# Altium schematic symbol library CONNECTOR.SchLib: 23 symbols
Pins are listed as number, name and electrical type; pins without a type are passive.

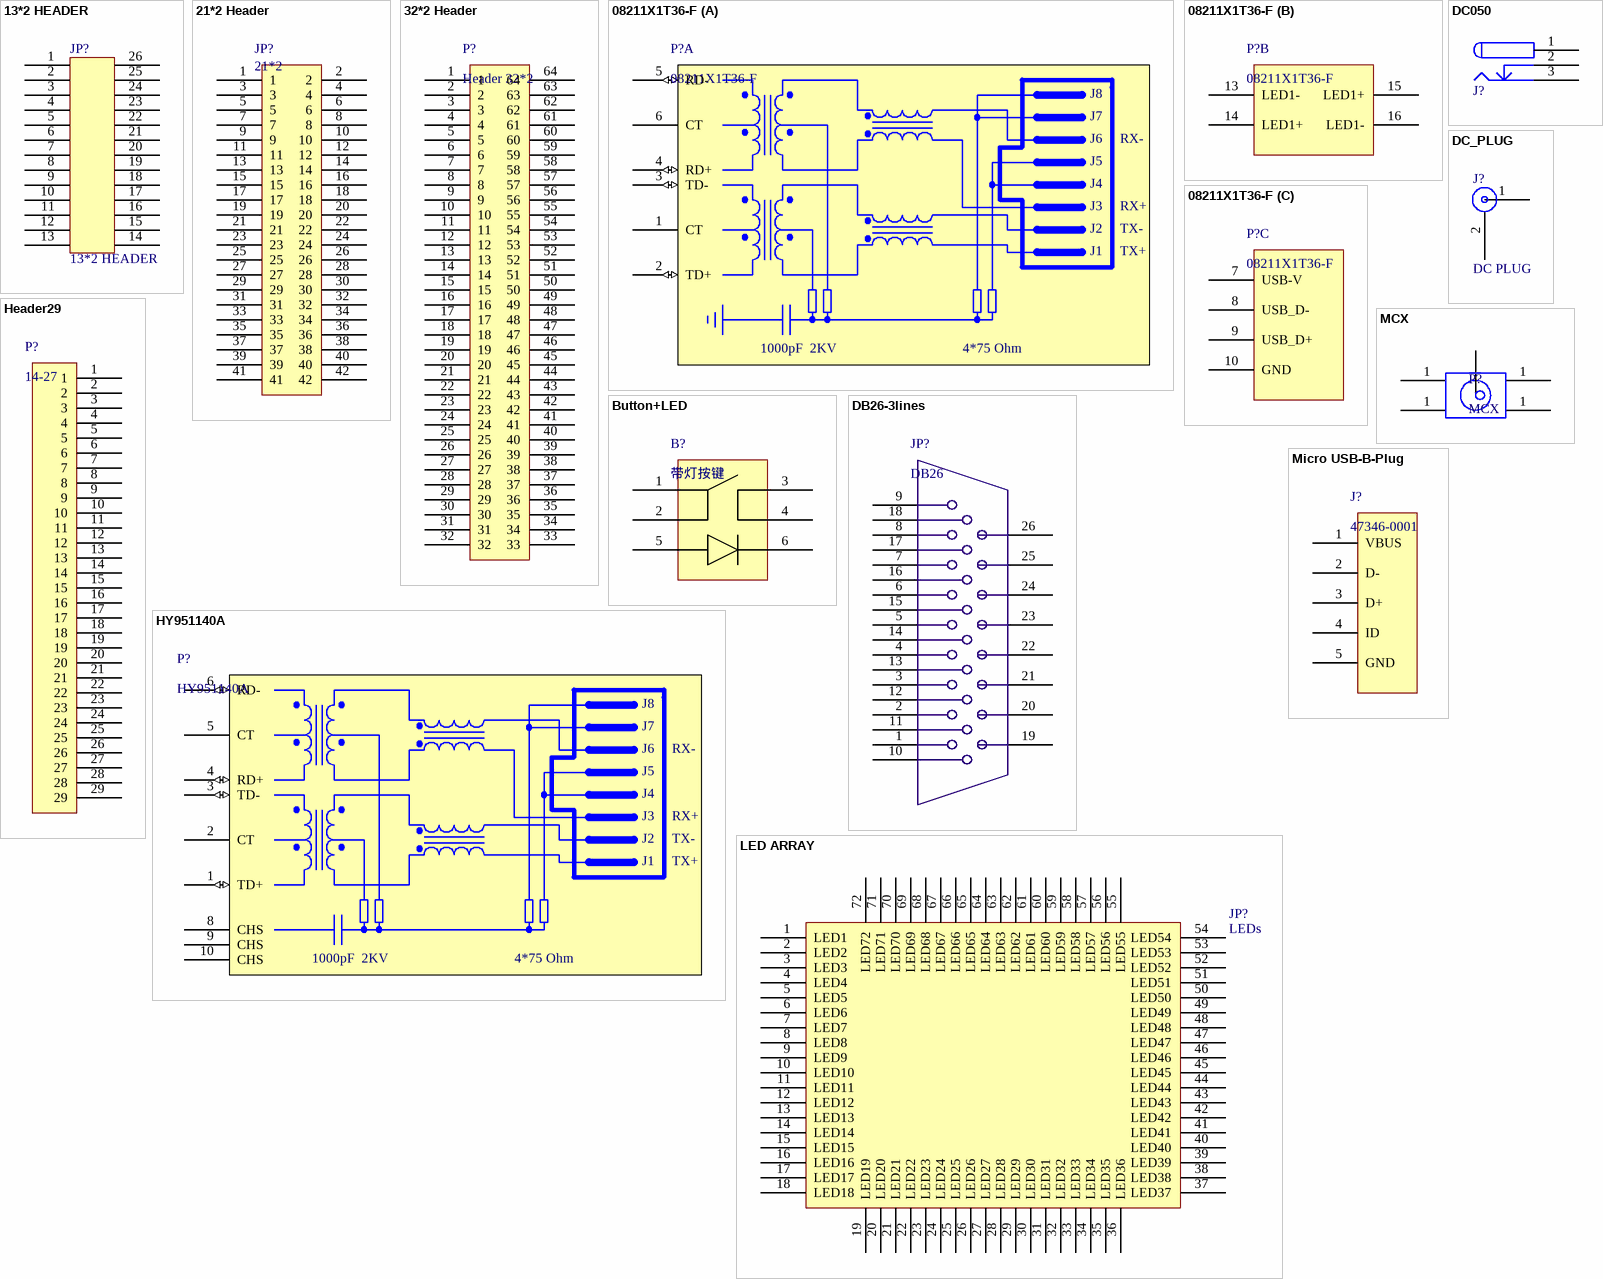
[diagram p0: symbols 13*2 HEADER to Micro USB-B-Plug]

## 13*2 HEADER
designator JP?
footprint Kaikou connector (P26)
pins: 1, 2, 3, 4, 5, 6, 7, 8, 9, 10, 11, 12, 13, 14, 15, 16, 17, 18, 19, 20, 21, 22, 23, 24, 25, 26

## 21*2 Header
designator JP?, comment 21*2
footprint IDC42
pins: 1, 2, 3, 4, 5, 6, 7, 8, 9, 10, 11, 12, 13, 14, 15, 16, 17, 18, 19, 20, 21, 22, 23, 24, 25, 26, 27, 28, 29, 30, 31, 32, 33, 34, 35, 36, 37, 38, 39, 40, 41, 42

## 32*2 Header
designator P?, comment Header 32*2
footprint NJ-64 (2.54mm,牛角64位)
pins: 1, 2, 3, 4, 5, 6, 7, 8, 9, 10, 11, 12, 13, 14, 15, 16, 17, 18, 19, 20, 21, 22, 23, 24, 25, 26, 27, 28, 29, 30, 31, 32, 33, 34, 35, 36, 37, 38, 39, 40, 41, 42, 43, 44, 45, 46, 47, 48, 49, 50, 51, 52, 53, 54, 55, 56, 57, 58, 59, 60, 61, 62, 63, 64

## 08211X1T36-F
designator P?
usb a & rj45
footprint 08211x1t36-f
part A pins: 1 CT (power), 2 TD+ (io), 3 TD- (io), 4 RD+ (io), 5 RD- (io), 6 CT (power)
part B pins: 13 LED1-, 14 LED1+, 15 LED1+, 16 LED1-
part C pins: 7 USB-V, 8 USB_D-, 9 USB_D+, 10 GND
part A text: J8; J7; J6; RX-; J5; J4; J3; RX+; J2; TX-; J1; TX+; 1000pF  2KV; 4*75 Ohm

## Button+LED
designator B?, comment 带灯按键
footprint key+led (带LED按键)
pins: 1, 2, 3, 4, 5, 6

## DB26-3lines
designator JP?, comment DB26
footprint DB26/Rugged (MDBA26PE860)
pins: 1, 2, 3, 4, 5, 6, 7, 8, 9, 10, 11, 12, 13, 14, 15, 16, 17, 18, 19, 20, 21, 22, 23, 24, 25, 26

## DC050
designator J?, comment DC PLUG  (value not drawn)
footprint DC050
pins: 1 VCC (power), 2 GND (power), 3 GND (power)

## DC_PLUG
designator J?, comment DC PLUG
footprint K_2.5MMPOWER_JACK
pins: 1 VCC (power), 2 GND (power), 3 GND (power) hidden to GND

## Header29
designator P?, comment 14-27
29pin
footprint 14-27 (大洋壳体14-27接线端子)
pins: 1, 2, 3, 4, 5, 6, 7, 8, 9, 10, 11, 12, 13, 14, 15, 16, 17, 18, 19, 20, 21, 22, 23, 24, 25, 26, 27, 28, 29

## HY951140A
designator P?
1*1 port tube upright RJ45 connector
footprint HY951140A (Footprint not found)
pins: 1 TD+ (io), 2 CT (power), 3 TD- (io), 4 RD+ (io), 5 CT (power), 6 RD- (io), 8 CHS (power), 9 CHS, 10 CHS
text: J8; J7; J6; RX-; J5; J4; J3; RX+; J2; TX-; J1; TX+; 1000pF  2KV; 4*75 Ohm

## LED ARRAY
designator JP?, comment LEDs
LEDs Jack; Value: LED ARRAY
footprint LED_ARRAY(12*3)
pins: 1 LED1 (power), 2 LED2 (power), 3 LED3 (power), 4 LED4 (power), 5 LED5 (power), 6 LED6 (power), 7 LED7 (power), 8 LED8 (power), 9 LED9 (power), 10 LED10 (power), 11 LED11 (power), 12 LED12 (power), 13 LED13 (power), 14 LED14 (power), 15 LED15 (power), 16 LED16 (power), 17 LED17 (power), 18 LED18 (power), 19 LED19 (power), 20 LED20 (power), 21 LED21 (power), 22 LED22 (power), 23 LED23 (power), 24 LED24 (power), 25 LED25 (power), 26 LED26 (power), 27 LED27 (power), 28 LED28 (power), 29 LED29 (power), 30 LED30 (power), 31 LED31 (power), 32 LED32 (power), 33 LED33 (power), 34 LED34 (power), 35 LED35 (power), 36 LED36 (power), 37 LED37 (power), 38 LED38 (power), 39 LED39 (power), 40 LED40 (power), 41 LED41 (power), 42 LED42 (power), 43 LED43 (power), 44 LED44 (power), 45 LED45 (power), 46 LED46 (power), 47 LED47 (power), 48 LED48 (power), 49 LED49 (power), 50 LED50 (power), 51 LED51 (power), 52 LED52 (power), 53 LED53 (power), 54 LED54 (power), 55 LED55 (power), 56 LED56 (power), 57 LED57 (power), 58 LED58 (power), 59 LED59 (power), 60 LED60 (power), 61 LED61 (power), 62 LED62 (power), 63 LED63 (power), 64 LED64 (power), 65 LED65 (power), 66 LED66 (power), 67 LED67 (power), 68 LED68 (power), 69 LED69 (power), 70 LED70 (power), 71 LED71 (power), 72 LED72 (power)

## MCX
designator P?
MCX SOCKET
footprint MCX_KE
pins: 1 GND (power), 1 GND (power), 1 GND (power), 1 GND (power), 2 ATENNA

## Micro USB-B-Plug
designator J?, comment 47346-0001
MICRO USB B
footprint 47346-0001
pins: 1 VBUS, 2 D-, 3 D+, 4 ID, 5 GND

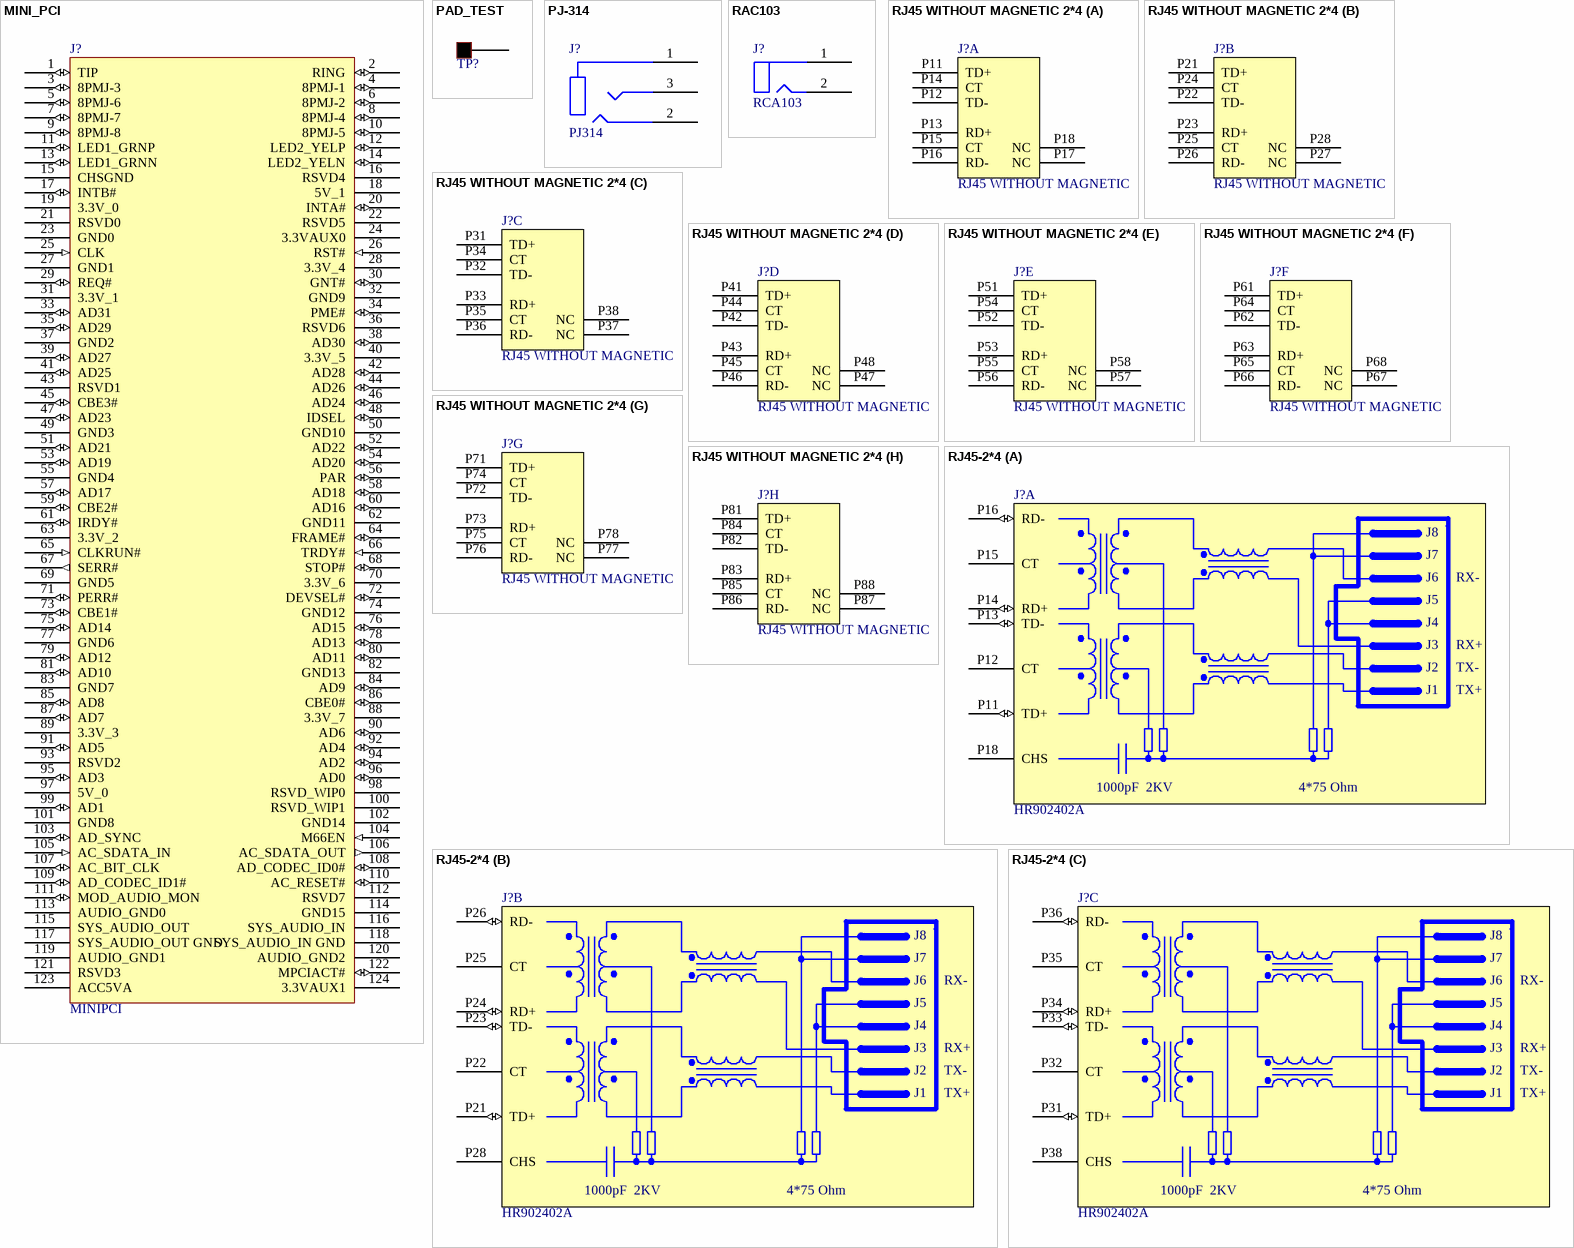
[diagram p1: symbols MINI_PCI to RJ45-2*4]

## MINI_PCI
designator J?, comment MINIPCI
footprint MINIPCI
pins: 1 TIP (io), 2 RING (io), 3 8PMJ-3 (io), 4 8PMJ-1 (io), 5 8PMJ-6 (io), 6 8PMJ-2 (io), 7 8PMJ-7 (io), 8 8PMJ-4 (io), 9 8PMJ-8 (io), 10 8PMJ-5 (io), 11 LED1_GRNP (io), 12 LED2_YELP (io), 13 LED1_GRNN (io), 14 LED2_YELN (io), 15 CHSGND (power), 16 RSVD4 (hiz), 17 INTB# (io), 18 5V_1 (power), 19 3.3V_0 (power), 20 INTA# (io), 21 RSVD0 (hiz), 22 RSVD5 (hiz), 23 GND0 (power), 24 3.3VAUX0 (power), 25 CLK (in), 26 RST# (in), 27 GND1 (power), 28 3.3V_4 (power), 29 REQ# (io), 30 GNT# (io), 31 3.3V_1 (power), 32 GND9 (power), 33 AD31 (io), 34 PME# (io), 35 AD29 (io), 36 RSVD6 (hiz), 37 GND2 (power), 38 AD30 (io), 39 AD27 (io), 40 3.3V_5 (power), 41 AD25 (io), 42 AD28 (io), 43 RSVD1 (hiz), 44 AD26 (io), 45 CBE3# (io), 46 AD24 (io), 47 AD23 (io), 48 IDSEL (io), 49 GND3 (power), 50 GND10 (power), 51 AD21 (io), 52 AD22 (io), 53 AD19 (io), 54 AD20 (io), 55 GND4 (power), 56 PAR (io), 57 AD17 (io), 58 AD18 (io), 59 CBE2# (io), 60 AD16 (io), 61 IRDY# (io), 62 GND11 (power), 63 3.3V_2 (power), 64 FRAME# (io), 65 CLKRUN# (in), 66 TRDY# (in), 67 SERR# (out), 68 STOP# (io), 69 GND5 (power), 70 3.3V_6 (power), 71 PERR# (io), 72 DEVSEL# (io), 73 CBE1# (io), 74 GND12 (power), 75 AD14 (io), 76 AD15 (io), 77 GND6 (power), 78 AD13 (io), 79 AD12 (io), 80 AD11 (io), 81 AD10 (io), 82 GND13 (power), 83 GND7 (power), 84 AD9 (io), 85 AD8 (io), 86 CBE0# (io), 87 AD7 (io), 88 3.3V_7 (power), 89 3.3V_3 (power), 90 AD6 (io), 91 AD5 (io), 92 AD4 (io), 93 RSVD2 (hiz), 94 AD2 (io), 95 AD3 (io), 96 AD0 (io), 97 5V_0 (power), 98 RSVD_WIP0 (hiz), 99 AD1 (io), 100 RSVD_WIP1 (hiz), 101 GND8 (power), 102 GND14 (power), 103 AD_SYNC (io), 104 M66EN (in), 105 AC_SDATA_IN (in), 106 AC_SDATA_OUT (out), 107 AC_BIT_CLK (io), 108 AD_CODEC_ID0# (io), 109 AD_CODEC_ID1# (io), 110 AC_RESET# (io), 111 MOD_AUDIO_MON (io), 112 RSVD7 (hiz), 113 AUDIO_GND0 (power), 114 GND15 (power), 115 SYS_AUDIO_OUT (power), 116 SYS_AUDIO_IN (power), 117 SYS_AUDIO_OUT GND (power), 118 SYS_AUDIO_IN GND (power), 119 AUDIO_GND1 (power), 120 AUDIO_GND2 (power), 121 RSVD3 (hiz), 122 MPCIACT# (io), 123 ACC5VA (power), 124 3.3VAUX1 (power)

## PAD_TEST
designator TP?, comment PAD TEST POINT  (value not drawn)
footprint PAD_TESTP
pins: 1 TP (hiz)

## PJ-314
designator J?, comment PJ314
footprint PJ-314
pins: 1 VCC (power), 2 GND (power), 3 GND (power)

## RAC103
designator J?, comment RCA103
footprint RCA103
pins: 1 VIDEO (power), 2 GND (power)

## RJ45 WITHOUT MAGNETIC 2*4
designator J?, comment RJ45 WITHOUT MAGNETIC
Value: RJ45 WITHOUT MAGNETIC
footprint E5908-57C12 (RJ45 2*4 FRE CAT3)
part A pins: P11 TD+, P12 TD-, P13 RD+, P14 CT, P15 CT, P16 RD-, P17 NC (power), P18 NC (power)
part B pins: P21 TD+, P22 TD-, P23 RD+, P24 CT, P25 CT, P26 RD-, P27 NC (power), P28 NC (power)
part C pins: P31 TD+, P32 TD-, P33 RD+, P34 CT, P35 CT, P36 RD-, P37 NC (power), P38 NC (power)
part D pins: P41 TD+, P42 TD-, P43 RD+, P44 CT, P45 CT, P46 RD-, P47 NC (power), P48 NC (power)
part E pins: P51 TD+, P52 TD-, P53 RD+, P54 CT, P55 CT, P56 RD-, P57 NC (power), P58 NC (power)
part F pins: P61 TD+, P62 TD-, P63 RD+, P64 CT, P65 CT, P66 RD-, P67 NC (power), P68 NC (power)
part G pins: P71 TD+, P72 TD-, P73 RD+, P74 CT, P75 CT, P76 RD-, P77 NC (power), P78 NC (power)
part H pins: P81 TD+, P82 TD-, P83 RD+, P84 CT, P85 CT, P86 RD-, P87 NC (power), P88 NC (power)

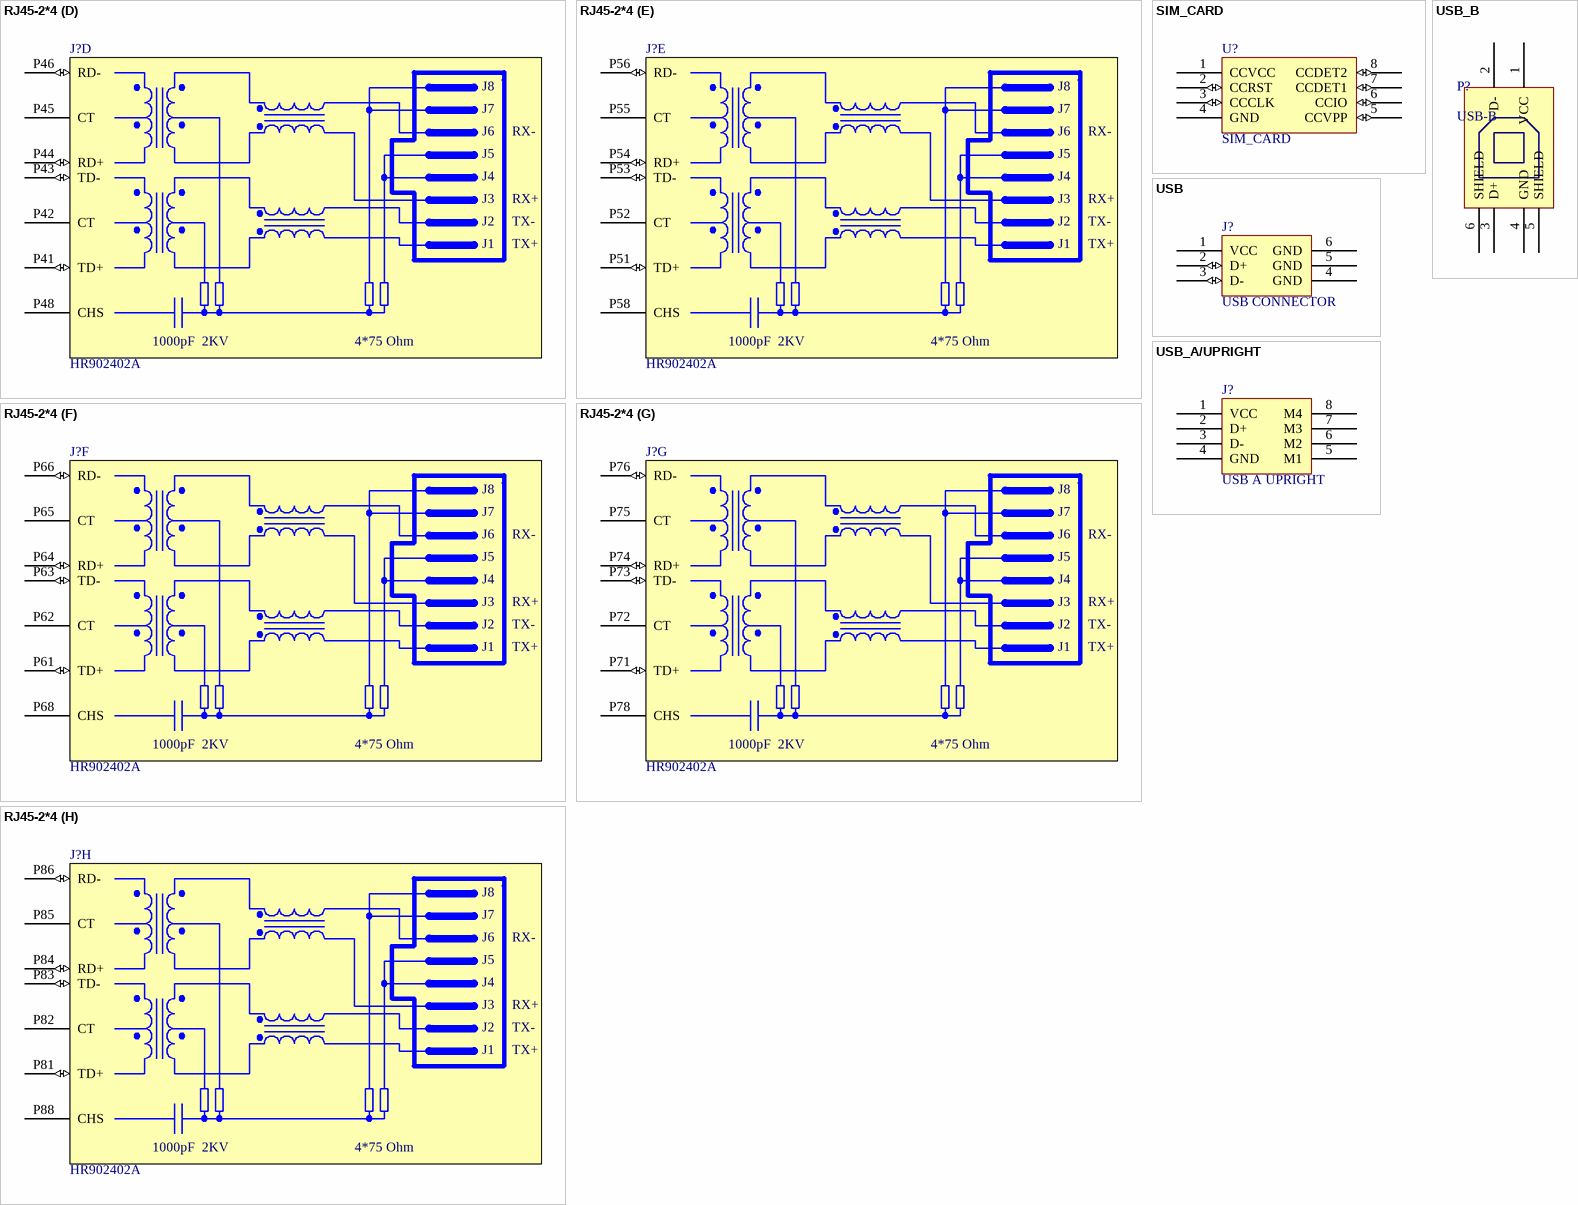
[diagram p2: symbols RJ45-2*4 to USB_B]

## RJ45-2*4
designator J?, comment value HR902402A  (hidden comment: RJ45 2*4)
footprint HR902402A (RJ45  2*4 HANRUN)
part A pins: P11 TD+ (io), P12 CT (power), P13 TD- (io), P14 RD+ (io), P15 CT (power), P16 RD- (io), P18 CHS (power)
part B pins: P21 TD+ (io), P22 CT (power), P23 TD- (io), P24 RD+ (io), P25 CT (power), P26 RD- (io), P28 CHS (power)
part C pins: P31 TD+ (io), P32 CT (power), P33 TD- (io), P34 RD+ (io), P35 CT (power), P36 RD- (io), P38 CHS (power)
part D pins: P41 TD+ (io), P42 CT (power), P43 TD- (io), P44 RD+ (io), P45 CT (power), P46 RD- (io), P48 CHS (power)
part E pins: P51 TD+ (io), P52 CT (power), P53 TD- (io), P54 RD+ (io), P55 CT (power), P56 RD- (io), P58 CHS (power)
part F pins: P61 TD+ (io), P62 CT (power), P63 TD- (io), P64 RD+ (io), P65 CT (power), P66 RD- (io), P68 CHS (power)
part G pins: P71 TD+ (io), P72 CT (power), P73 TD- (io), P74 RD+ (io), P75 CT (power), P76 RD- (io), P78 CHS (power)
part H pins: P81 TD+ (io), P82 CT (power), P83 TD- (io), P84 RD+ (io), P85 CT (power), P86 RD- (io), P88 CHS (power)
part A text: J8; J7; J6; RX-; J5; J4; J3; RX+; J2; TX-; J1; TX+; 1000pF  2KV; 4*75 Ohm
part B text: J8; J7; J6; RX-; J5; J4; J3; RX+; J2; TX-; J1; TX+; 1000pF  2KV; 4*75 Ohm
part C text: J8; J7; J6; RX-; J5; J4; J3; RX+; J2; TX-; J1; TX+; 1000pF  2KV; 4*75 Ohm
part D text: J8; J7; J6; RX-; J5; J4; J3; RX+; J2; TX-; J1; TX+; 1000pF  2KV; 4*75 Ohm
part E text: J8; J7; J6; RX-; J5; J4; J3; RX+; J2; TX-; J1; TX+; 1000pF  2KV; 4*75 Ohm
part F text: J8; J7; J6; RX-; J5; J4; J3; RX+; J2; TX-; J1; TX+; 1000pF  2KV; 4*75 Ohm
part G text: J8; J7; J6; RX-; J5; J4; J3; RX+; J2; TX-; J1; TX+; 1000pF  2KV; 4*75 Ohm
part H text: J8; J7; J6; RX-; J5; J4; J3; RX+; J2; TX-; J1; TX+; 1000pF  2KV; 4*75 Ohm

## SIM_CARD
designator U?
SIM CARD
footprint BM05406
pins: 1 CCVCC (power), 2 CCRST (io), 3 CCCLK (io), 4 GND (power), 5 CCVPP (io), 6 CCIO (io), 7 CCDET1 (io), 8 CCDET2 (io)

## USB
designator J?, comment USB CONNECTOR
footprint USB_A (USB CONNECTOR A TYPE)
pins: 1 VCC (power), 2 D+ (io), 3 D- (io), 4 GND (power), 5 GND (power), 6 GND (power)

## USB_A/UPRIGHT
designator J?, comment USB A UPRIGHT
footprint USB_A/UPRIGHT (ASTRON)
pins: 1 VCC (power), 2 D+, 3 D-, 4 GND (power), 5 M1 (power), 6 M2 (power), 7 M3 (power), 8 M4 (power)

## USB_B
designator P?, comment USB-B
footprint USB-B
pins: 1 VCC, 2 D-, 3 D+, 4 GND, 5 SHIELD, 6 SHIELD